# Altium schematic symbol library Schematic_library.SchLib: 3 symbols
Pins are listed as number, name and electrical type; pins without a type are passive.

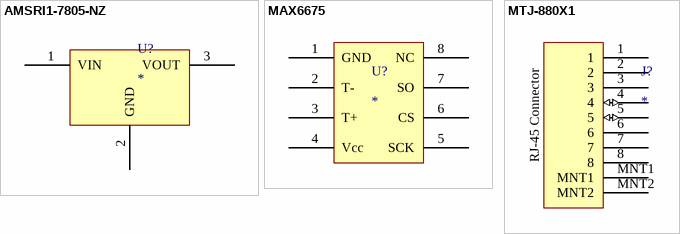
[diagram p0: symbols AMSRI1-7805-NZ to MTJ-880X1]

## AMSRI1-7805-NZ
designator U?
AMSRI1-7805-NZ, 5V / 1A DC output converter
pins: 1 VIN, 2 GND, 3 VOUT

## MAX6675
designator U?
pins: 1 GND, 2 T-, 3 T+, 4 Vcc, 5 SCK, 6 CS, 7 SO, 8 NC

## MTJ-880X1
designator J?
pins: 1, 2, 3, 4 (io), 5 (io), 6, 7, 8, MNT1, MNT2
text: RJ-45 Connector